# EAGLE library part MC100LVEP11DTG (library On Semiconductor)
Buffer
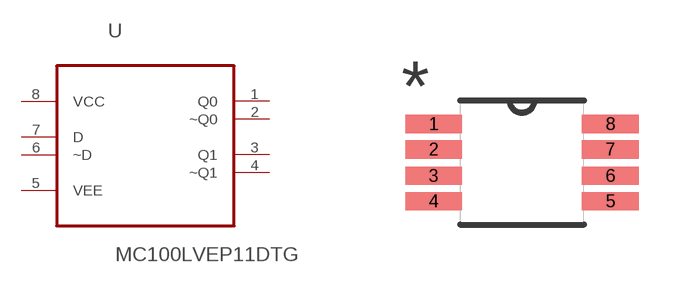
[diagram p155: symbol with the pads of SOP65P490X110-8N; footprint SOP65P490X110-8N]

Designator prefix U

## MC100LVEP11DTG (MPN: MC100LVEP11DTG; OC_FARNELL: 1155552; OC_NEWARK: 71J5441; PACKAGE: TSSOP-8; SUPPLIER: On Semiconductor)  [SOP65P490X110-8N]
1  Q0  out
2  ~Q0  out
3  Q1  out
4  ~Q1  out
5  VEE  pwr
6  ~D  in
7  D  in
8  VCC  pwr

## Footprint SOP65P490X110-8N (pad centres in mm)
smd 1.422 x 0.457: 1 -2.21,0.965; 2 -2.21,0.33; 3 -2.21,-0.33; 4 -2.21,-0.965; 5 2.21,-0.965; 6 2.21,-0.33; 7 2.21,0.33; 8 2.21,0.965